# Altium footprint library SparkFun-Connectors.PCBLIB: 376 footprints (part 14 of 24)
Each footprint in its own frame and in the unit in brackets; x right, y up, seen from the top. Pads: shape width x height; smd on the part's side, far side on the other; paste and mask are expansions set on the pad; w line width, h text height; cw(c..) or ccw(c..) is an arc to the next point about the centre after c.
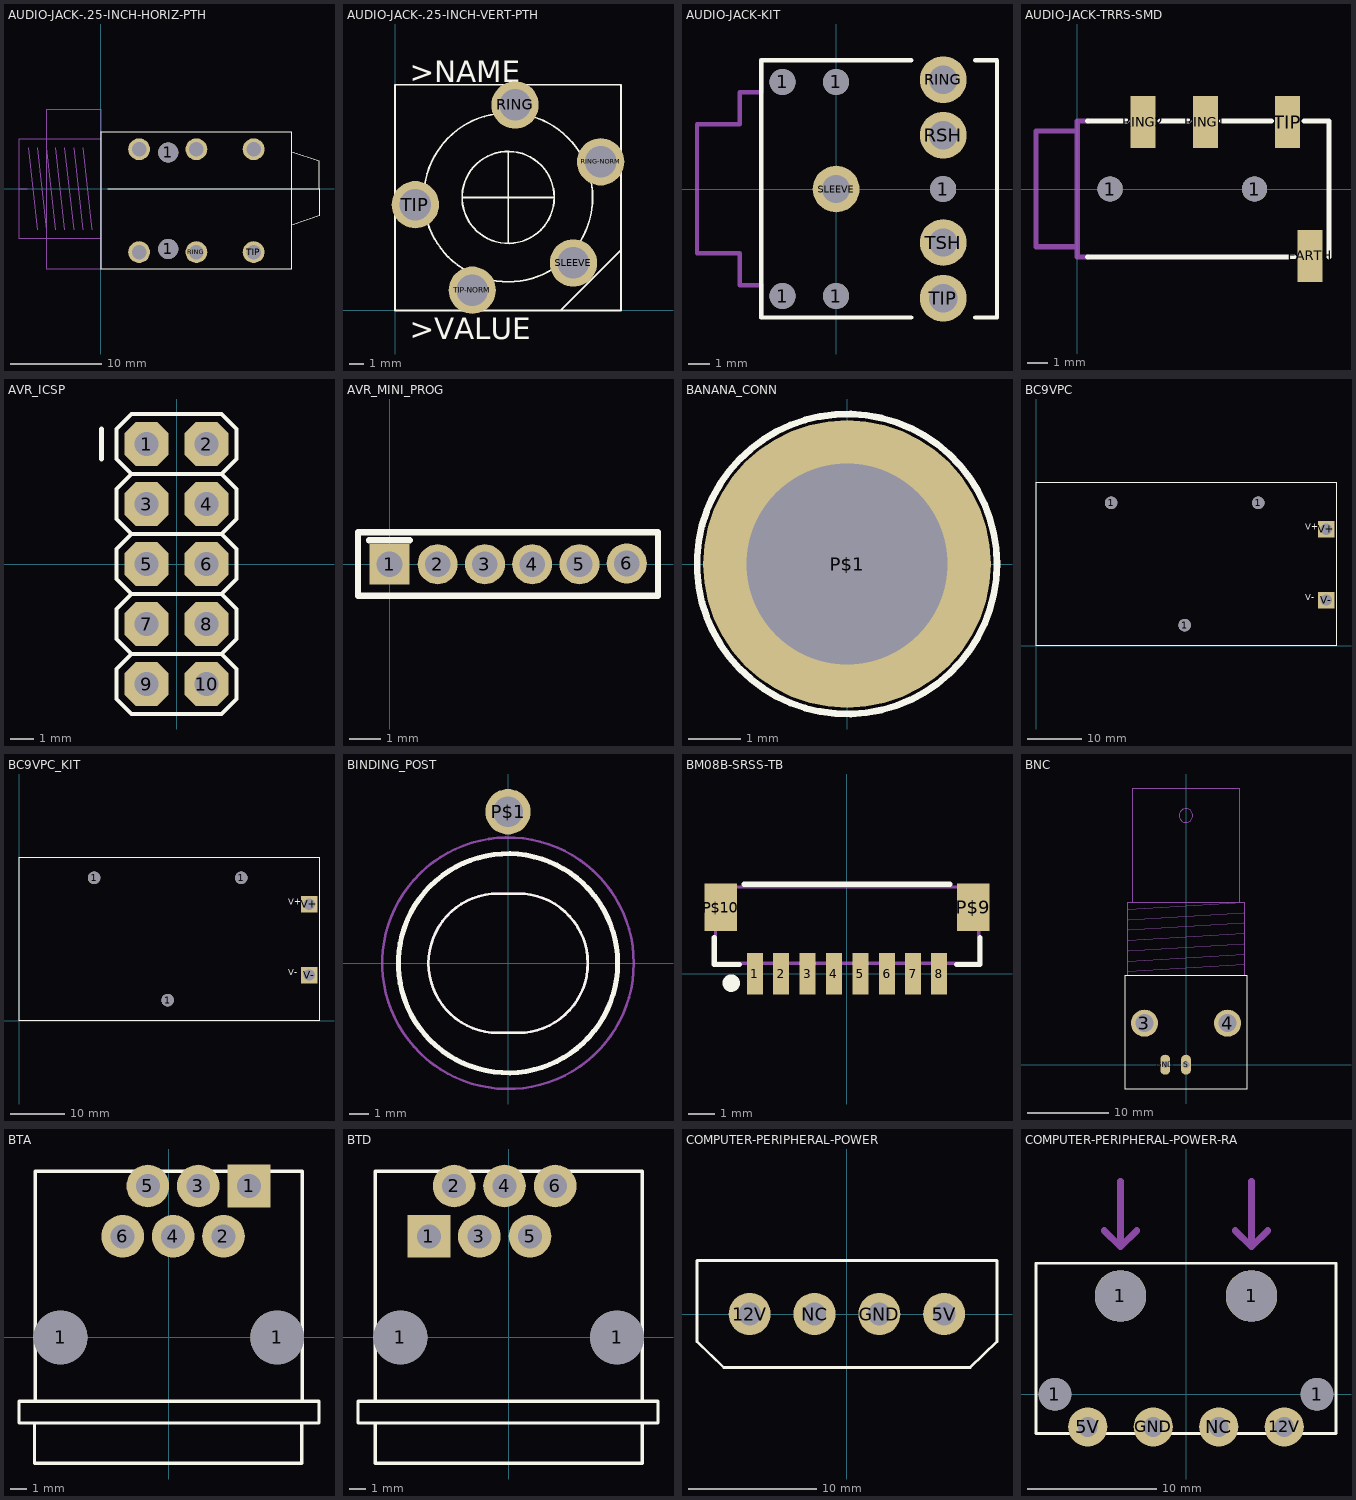
[diagram p13: the footprints below, top view; thin cyan lines are the x and y axes]

## AUDIO-JACK-.25-INCH-HORIZ-PTH [mil]
pads (8):
  round 87 hole 87: 1(292,-259.84) 1(292,158)
  round 94.5 hole 63: RING(414,-273.62) RING-NORM(414,172) SLEEVE(166,-273.62) SLEEVE-NORM(166,172) TIP(662,-273.62) TIP-NORM(662,172)
Top Overlay:
  lines w5: 29,2 945,2 ; 827,-156.3 827,-345.28 0,-345.28 0,246 827,246 827,159 ; 827,-156.3 827,159 ; 827,-156.3 945,-116.93 945,2 ; 827,159 945,120 945,2
Mechanical 2:
  text ">NAME" at 100,0 h59.5
Mechanical 4:
  text ">VALUE" at 100,-100 h59.5
Mechanical 16:
  lines w5: -318.9,2 -354.33,2 ; -314.96,179 -275.59,-175.98 ; -275.59,179 -236.22,-175.98 ; -236.22,179 -196.85,-175.98 ; -196.85,179 -157.48,-175.98 ; -157.48,179 -118.11,-175.98 ; -118.11,179 -78.74,-175.98 ; -78.74,179 -39.37,-175.98 ; -354.33,2 -354.33,-215.35 0,-215.35 0,218 -354.33,218 -354.33,2 ; -236.22,-344.49 0,-344.49 0,345 -236.22,345 -236.22,-344.49

## AUDIO-JACK-.25-INCH-VERT-PTH [mil]
pads (5):
  round 130.5 hole 87: RING(331,567) RING-NORM(567,410) SLEEVE(492,131) TIP(56,292) TIP-NORM(213,56)
Top Overlay:
  circle w5: c312,312 r127
  circle w5: c312,312 r233
  lines w5: 186,312 438,312 ; 312,186 312,438 ; 457,0 0,0 0,623 623,623 623,166 ; 457,0 623,0 623,166 ; 457,0 623,166
  text ">NAME" at 40,630 h59.5
  text ">VALUE" at 40,-78.74 h59.5

## AUDIO-JACK-KIT [mil]
pads (10):
  round 48 hole 48: 1(-98.43,-196.85) 1(-98.43,197) 1(0,-196.85) 1(0,197) 1(197,0)
  round 86 hole 52: RING(197,201) RSH(197,99) SLEEVE(0,0) TIP(197,-200.79) TSH(197,-98.43)
Top Overlay:
  lines w8: 138,-236.22 -137.8,-236.22 -137.8,237 138,237 ; 256,-236.22 296,-236.22 296,237 256,237
Top Solder:
  circle w0: c0,0 r26
  circle w0: c197,201 r26
  circle w0: c197,99 r26
  circle w0: c197,-98.43 r26
  circle w0: c197,-200.79 r26
Bottom Solder:
  circle w0: c0,0 r48
  circle w0: c197,201 r48
  circle w0: c197,-200.79 r48
  circle w0: c197,-98.43 r48
  circle w0: c197,99 r48
Mechanical 2:
  text ">NAME" at -50,100 h24.8
Mechanical 4:
  text ">VALUE" at -50,50 h24.8
Mechanical 16:
  lines w8: -137.8,-236.22 -137.8,-177.17 -177.17,-177.17 -177.17,-118.11 -255.91,-118.11 -255.91,119 -177.17,119 -177.17,178 -137.8,178 -137.8,237

## AUDIO-JACK-TRRS-SMD [mil]
pads (6):
  round 48 hole 48: 1(63,0) 1(339,0)
  rect 48x99 smd: EARTH(445,-127.95) RING1(245,128) RING2(126,128) TIP(402,128)
Top Overlay:
  lines w10: 20,-129.92 414,-129.92 ; 20,130 95,130 ; 158,130 213,130 ; 276,130 371,130 ; 434,130 481,130 481,-129.92
Mechanical 16:
  lines w10: 20,-129.92 0,-129.92 0,-110.24 ; 20,130 0,130 0,111 ; 0,-110.24 0,111 ; 0,-110.24 -78.74,-110.24 -78.74,111 0,111

## AVR_ICSP [mil]
pads (10):
  oct 74x74 hole 40: 1(-50,200) 2(50,200) 3(-50,100) 4(50,100) 5(-50,0) 6(50,0) 7(-50,-100) 8(50,-100) 9(-50,-200) 10(50,-200)
Top Overlay:
  rectangle: -60,-10 -40,10
  lines w6: -75,-150 -100,-125 -100,-75 -75,-50 ; -75,-150 75,-150 ; -75,-150 -100,-175 -100,-225 -75,-250 75,-250 100,-225 100,-175 75,-150 ; -75,-50 -100,-25 -100,25 -75,50 ; -75,-50 75,-50 ; -75,50 -100,75 -100,125 -75,150 ; -75,50 75,50 ; -75,150 -100,175 -100,225 -75,250 75,250 100,225 100,175 75,150 ; -75,150 75,150 ; 75,-150 100,-125 100,-75 75,-50 ; 75,-50 100,-25 100,25 75,50 ; 75,50 100,75 100,125 75,150
  lines w8: -125,175 -125,225
Mechanical 2:
  text ">NAME" at -110,-130 h24.8
Mechanical 4:
  text ">VALUE" at -110,-10 h13.6
Mechanical 16:
  rectangle: -60,190 -40,210
  rectangle: 40,190 60,210
  rectangle: 40,90 60,110
  rectangle: -60,90 -40,110
  rectangle: 40,-10 60,10
  rectangle: 40,-210 60,-190
  rectangle: -60,-210 -40,-190
  rectangle: -60,-110 -40,-90
  rectangle: 40,-110 60,-90

## AVR_MINI_PROG [mil]
pads (6):
  rect 50x50 hole 32: 1(0,0)
  round 50 hole 32: 2(60,0) 3(119,0) 4(178,0) 5(237,0) 6(296,1)
Top Overlay:
  lines w8: -25.59,30 25,30 ; -39.37,-39.37 -39.37,40 335,40 335,-39.37 -39.37,-39.37

## BANANA_CONN [mil]
pads (1):
  round 215 hole 150: P$1(0,0)
Top Overlay:
  circle w5: c0,0 r112

## BC9VPC [mil]
pads (5):
  round 90 hole 90: 1(540,1030) 1(1070,150) 1(1600,1030)
  rect 120x120 hole 80: V+(2090,840) V-(2090,330)
Top Overlay:
  lines w5: 0,0 0,1180 2160,1180 2160,0 0,0
  text "V+" at 1940,820 h77.5
  text "V-" at 1940,310 h77.5

## BC9VPC_KIT [mil]
pads (5):
  round 90 hole 90: 1(540,1030) 1(1070,150) 1(1600,1030)
  rect 120x120 hole 80: V+(2090,840) V-(2090,330)
Top Overlay:
  lines w5: 0,0 0,1180 2160,1180 2160,0 0,0
  text "V+" at 1940,820 h77.5
  text "V-" at 1940,310 h77.5
Bottom Solder:
  rectangle: 2030,780 2150,900
  rectangle: 2030,270 2150,390

## BINDING_POST [mil]
pads (1):
  round 90 hole 60: P$1(0,300)
Top Overlay:
  circle w10: c0,0 r217
  lines w5: -157.48,0 cw(c-19.58,0.1) -19.68,138 20,138 cw(c20,0) 158,0 cw(c20.1,0.1) 20,-137.8 -19.68,-137.8 cw(c-19.68,0) -157.48,0
Mechanical 1:
  lines w5: -157.48,0 cw(c-19.58,0.1) -19.68,138 20,138 cw(c20,0) 158,0 cw(c20.1,0.1) 20,-137.8 -19.68,-137.8 cw(c-19.68,0) -157.48,0
Mechanical 2:
  text ">NAME" at 79,355 h77.5
  text ">VALUE" at 79,255 h77.5
Mechanical 27:
  circle w5: c0,0 r217
Mechanical 28:
  circle w5: c0,0 r249

## BM08B-SRSS-TB [mil]
pads (10):
  rect 24x62 smd: 1(-137.8,0) 2(-98.43,0) 3(-59.06,0) 4(-19.68,0) 5(20,0) 6(60,0) 7(99,0) 8(138,0)
  rect 48x71 smd: P$9(189,100) P$10(-188.98,100)
Top Overlay:
  circle w16: c-173.23,-13.78 r5
  lines w8: -198.82,54 -198.82,14 -161.42,14 ; -153.54,134 154,134 ; 164,14 199,14 199,54
Mechanical 2:
  text ">NAME" at -149.61,99 h24.8
Mechanical 4:
  text ">VALUE" at -149.61,52 h24.8
Mechanical 16:
  lines w5: -196.85,16 -196.85,130 197,130 197,16 -196.85,16

## BNC [mil]
pads (4):
  round 130.5 hole 87: 3(-200,200) 4(200,200)
  oval 48x96 hole 32: GND(-100,0) S(0,0)
Top Overlay:
  lines w5: -295,-117 295,-117 295,428 -295,428 -295,-117
Mechanical 2:
  text ">NAME" at -250,350 h24.8
Mechanical 4:
  text ">VALUE" at -250,300 h24.8
Mechanical 16:
  circle w5: c0,1200 r33
  lines w5: -280,428 -280,783 -260,783 ; -279,449 279,483 ; -279,499 279,533 ; -279,549 279,583 ; -279,599 279,633 ; -279,649 279,683 ; -279,699 279,733 ; -279,749 279,783 ; 280,428 280,783 279,783 ; -260,783 260,783 ; -260,783 -260,1328 260,1328 260,783 ; 260,783 279,783

## BTA [mil]
pads (8):
  round 126 hole 126: 1(-253.94,0) 1(254,0)
  rect 100x100 hole 56: 1(188,355)
  round 100 hole 56: 2(128,237) 3(69,355) 4(10,237) 5(-49.21,355) 6(-108.27,237)
Top Overlay:
  lines w8: -314.96,-200.79 -314.96,-295.28 312,-295.28 312,-200.79 ; -314.96,-200.79 -351.38,-200.79 -351.38,-149.61 -312.99,-149.61 ; -314.96,-200.79 312,-200.79 ; -312.99,-149.61 -312.99,390 313,390 313,-149.61 ; -312.99,-149.61 313,-149.61 ; 312,-200.79 352,-200.79 352,-149.61 313,-149.61
Mechanical 2:
  text ">NAME" at -114.96,-278.35 h77.5

## BTD [mil]
pads (8):
  round 126 hole 126: 1(-253.94,0) 1(254,0)
  rect 100x100 hole 56: 1(-187.01,237)
  round 100 hole 56: 2(-127.95,355) 3(-68.9,237) 4(-9.84,355) 5(50,237) 6(109,355)
Top Overlay:
  lines w8: -312.99,-200.79 -353.35,-200.79 -353.35,-149.61 -312.99,-149.61 ; -312.99,-200.79 313,-200.79 ; -312.99,-200.79 -312.99,-295.28 313,-295.28 313,-200.79 ; -312.99,-149.61 -312.99,390 313,390 313,-149.61 ; -312.99,-149.61 313,-149.61 ; 313,-200.79 350,-200.79 350,-149.61 313,-149.61
Mechanical 2:
  text ">Name" at -118.11,-275.59 h77.5

## COMPUTER-PERIPHERAL-POWER [mil]
pads (4):
  round 130 hole 70: 5V(300,0) 12V(-300,0) GND(100,0) NC(-100,0)
Top Overlay:
  lines w8: -462.5,-85 -380,-165 380,-165 463,-85 463,165 -462.5,165 -462.5,-85

## COMPUTER-PERIPHERAL-POWER-RA [mil]
pads (8):
  round 100 hole 100: 1(-400,0) 1(400,0)
  round 157 hole 157: 1(-200,300) 1(200,300)
  round 120 hole 60: 5V(-300,-100) 12V(300,-100) GND(-100,-100) NC(100,-100)
Top Overlay:
  lines w8: -350,-120 -458,-120 -458,400 458,400 458,-120 350,-120 ; -250,-120 -150,-120 ; -50,-120 50,-120 ; 150,-120 250,-120
Mechanical 16:
  lines w8: -458,-120 458,-120
  lines w20: -250,500 -200,450 ; -200,650 -200,450 ; -150,500 -200,450 ; 150,500 200,450 ; 200,650 200,450 ; 250,500 200,450
  text "INSERT" at -120,525 h77.5